# EAGLE library part SPHINX-C100 (library inventronik)
Sphinx-C100 Inventronik GmbH, 2004 www.inventronik.de
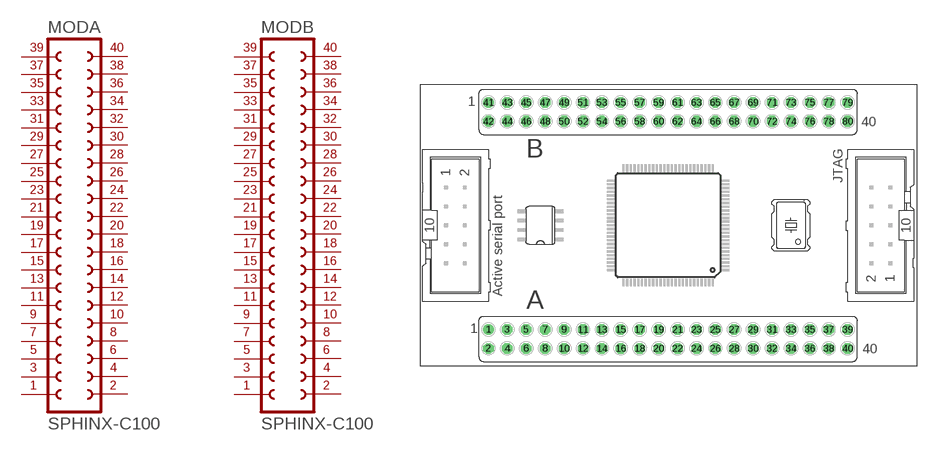
[diagram p0: symbol with the pads of SPHINX-C100; footprint SPHINX-C100]

Designator prefix MOD; gates A=FE20-2 B=FE20-2

## SPHINX-C100  [SPHINX-C100]
1  A:1  pas
2  A:2  pas
3  A:3  pas
4  A:4  pas
5  A:5  pas
6  A:6  pas
7  A:7  pas
8  A:8  pas
9  A:9  pas
10  A:10  pas
11  A:11  pas
12  A:12  pas
13  A:13  pas
14  A:14  pas
15  A:15  pas
16  A:16  pas
17  A:17  pas
18  A:18  pas
19  A:19  pas
20  A:20  pas
21  A:21  pas
22  A:22  pas
23  A:23  pas
24  A:24  pas
25  A:25  pas
26  A:26  pas
27  A:27  pas
28  A:28  pas
29  A:29  pas
30  A:30  pas
31  A:31  pas
32  A:32  pas
33  A:33  pas
34  A:34  pas
35  A:35  pas
36  A:36  pas
37  A:37  pas
38  A:38  pas
39  A:39  pas
40  A:40  pas
41  B:1  pas
42  B:2  pas
43  B:3  pas
44  B:4  pas
45  B:5  pas
46  B:6  pas
47  B:7  pas
48  B:8  pas
49  B:9  pas
50  B:10  pas
51  B:11  pas
52  B:12  pas
53  B:13  pas
54  B:14  pas
55  B:15  pas
56  B:16  pas
57  B:17  pas
58  B:18  pas
59  B:19  pas
60  B:20  pas
61  B:21  pas
62  B:22  pas
63  B:23  pas
64  B:24  pas
65  B:25  pas
66  B:26  pas
67  B:27  pas
68  B:28  pas
69  B:29  pas
70  B:30  pas
71  B:31  pas
72  B:32  pas
73  B:33  pas
74  B:34  pas
75  B:35  pas
76  B:36  pas
77  B:37  pas
78  B:38  pas
79  B:39  pas
80  B:40  pas

## Footprint SPHINX-C100 (pad centres in mm)
Sphinx-C100 Inventronik GmbH, 2004 www.inventronik.de
drill 0.914 round: 1 -24.13,-13.97; 41 -24.13,16.51
drill 0.914 octagon: 2 -24.13,-16.51; 3 -21.59,-13.97; 4 -21.59,-16.51; 5 -19.05,-13.97; 6 -19.05,-16.51; 7 -16.51,-13.97; 8 -16.51,-16.51; 9 -13.97,-13.97; 10 -13.97,-16.51; 11 -11.43,-13.97; 12 -11.43,-16.51; 13 -8.89,-13.97; 14 -8.89,-16.51; 15 -6.35,-13.97; 16 -6.35,-16.51; 17 -3.81,-13.97; 18 -3.81,-16.51; 19 -1.27,-13.97; 20 -1.27,-16.51; 21 1.27,-13.97; 22 1.27,-16.51; 23 3.81,-13.97; 24 3.81,-16.51; 25 6.35,-13.97; 26 6.35,-16.51; 27 8.89,-13.97; 28 8.89,-16.51; 29 11.43,-13.97; 30 11.43,-16.51; 31 13.97,-13.97; 32 13.97,-16.51; 33 16.51,-13.97; 34 16.51,-16.51; 35 19.05,-13.97; 36 19.05,-16.51; 37 21.59,-13.97; 38 21.59,-16.51; 39 24.13,-13.97; 40 24.13,-16.51; 42 -24.13,13.97; 43 -21.59,16.51; 44 -21.59,13.97; 45 -19.05,16.51; 46 -19.05,13.97; 47 -16.51,16.51; 48 -16.51,13.97; 49 -13.97,16.51; 50 -13.97,13.97; 51 -11.43,16.51; 52 -11.43,13.97; 53 -8.89,16.51; 54 -8.89,13.97; 55 -6.35,16.51; 56 -6.35,13.97; 57 -3.81,16.51; 58 -3.81,13.97; 59 -1.27,16.51; 60 -1.27,13.97; 61 1.27,16.51; 62 1.27,13.97; 63 3.81,16.51; 64 3.81,13.97; 65 6.35,16.51; 66 6.35,13.97; 67 8.89,16.51; 68 8.89,13.97; 69 11.43,16.51; 70 11.43,13.97; 71 13.97,16.51; 72 13.97,13.97; 73 16.51,16.51; 74 16.51,13.97; 75 19.05,16.51; 76 19.05,13.97; 77 21.59,16.51; 78 21.59,13.97; 79 24.13,16.51; 80 24.13,13.97